# Altium integrated library Big_Library_Diode.IntLib: 4 symbols
Pins are listed as number, name and electrical type; pins without a type are passive.

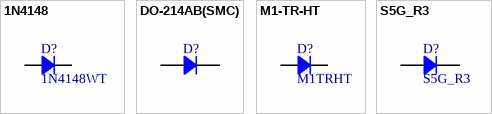
[diagram p0: symbols 1N4148 to S5G_R3]

## 1N4148
designator D?, comment 1N4148WT
Small Signal Diode, SOD-523, 100V, 0.125A, 4ns; Manufacturer: ON Semiconductor / Fairchild; Max Repetitive Reverse Voltage (Vrrm): 75V; Element Configuration: Single; Forward Current: 300mA; Average Rectified Current: 200mA; Forward Voltage: 1V; Max Reverse Current: 5uA; Max Forward Surge Current (Ifsm): 4A; Power Dissipation: 200mW; ComponentLink1Description: Link; ComponentLink1URL: *; Part Number: 1N4148WT; Category: Rectifier Diodes; Reverse Recovery Time: 4ns; Max Reverse Voltage (DC): 75V; Recovery Time: 4ns; Reverse Recovery Time-Max: 4ns
footprint SOD323 (SOD, 2-Leads, Body 1.25x2.50mm, IPC Medium Density)
footprint SOD-123 (SOD, 2-Leads, Body 1.55x3.70mm, IPC Medium Density)
pins: 1, 2

## DO-214AB(SMC)
designator D?
Rectifier Diode; Current: *; Voltage: *; ComponentLink1Description: Link 1; ComponentLink1URL: *; ComponentLink2Description: Link 2; ComponentLink2URL: *
footprint DO214AB SMC (Molded Diode, 2-Leads, Body 6.85x5.90mm, IPC Medium Density)
pins: 1, 2

## M1-TR-HT
designator D?, comment M1TRHT
Rectifier Diode; Current: 1A; Voltage: 50V; Part Number: M1TRHT; ComponentLink1Description: Link 1; ComponentLink1URL: *https://ozdisan.com/power-semiconductors/diodes-diode-modules-and-rectifiers/general-purpose-diodes/M1-TR-HT/489730; ComponentLink2Description: Link 2; ComponentLink2URL: *
footprint DO214AC SMA (Molded Diode, 2-Leads, Body 4.30x2.60mm, IPC Medium Density)
pins: 1, 2

## S5G_R3
designator D?
Rectifier Diode; Current: 5A; Voltage: 400V; Part Number: S5G_R3; ComponentLink1Description: Link 1; ComponentLink1URL: *; ComponentLink2Description: Link 2; ComponentLink2URL: *
footprint DO214AB SMC (Molded Diode, 2-Leads, Body 6.85x5.90mm, IPC Medium Density)
pins: 1, 2